# Altium schematic symbol library Connectors.SchLib: 12 symbols
Pins are listed as number, name and electrical type; pins without a type are passive.

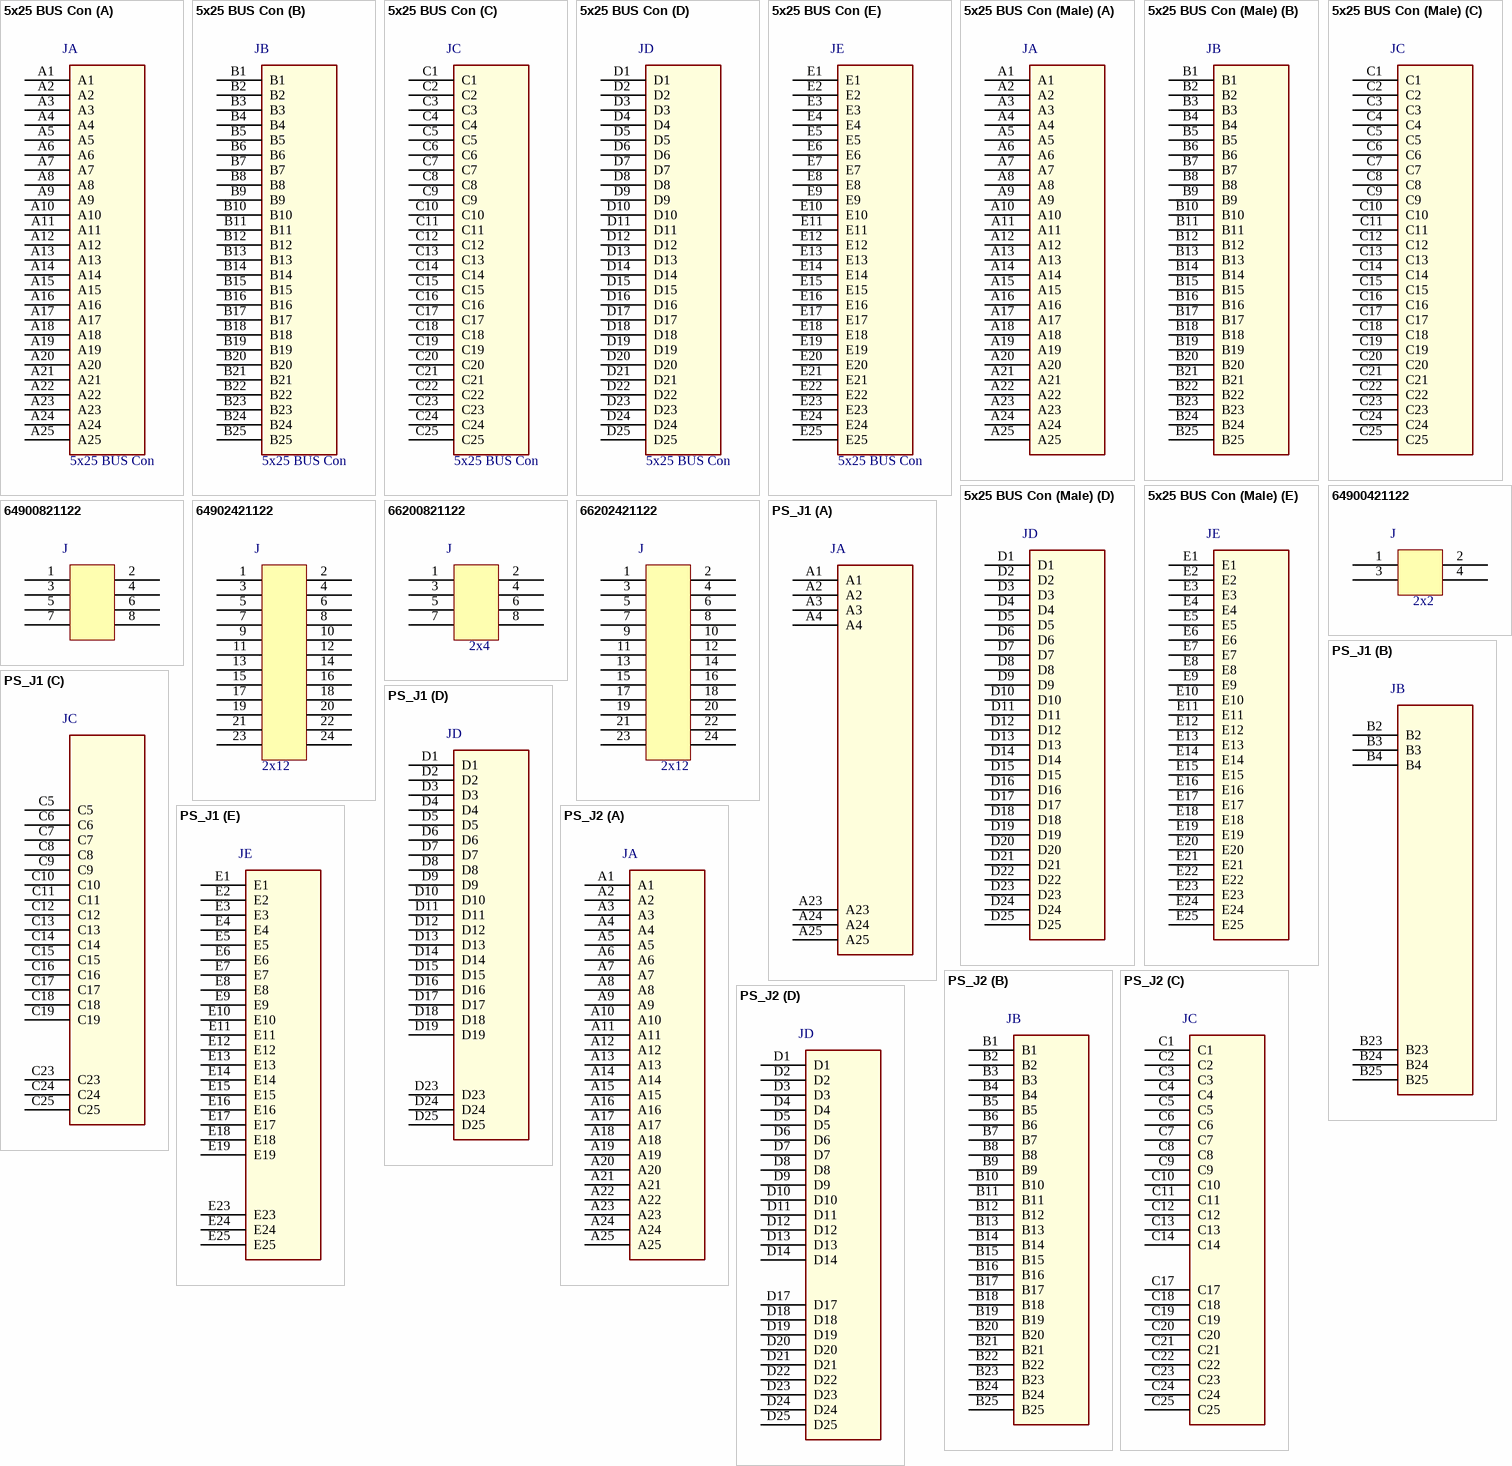
[diagram p0: symbols 5x25 BUS Con to PS_J2]

## 5x25 BUS Con
designator J  value 5x25 BUS Con  (hidden comment: *)
Manufacturer Code: 244-21300-15; Manufacturer: EPT; Farnell Code: 1656299; Unit Price: 3,29 €
footprint B25 (EPT B25 Female Connector 244-21300-15)
part A pins: A1, A2, A3, A4, A5, A6, A7, A8, A9, A10, A11, A12, A13, A14, A15, A16, A17, A18, A19, A20, A21, A22, A23, A24, A25
part B pins: B1, B2, B3, B4, B5, B6, B7, B8, B9, B10, B11, B12, B13, B14, B15, B16, B17, B18, B19, B20, B21, B22, B23, B24, B25
part C pins: C1, C2, C3, C4, C5, C6, C7, C8, C9, C10, C11, C12, C13, C14, C15, C16, C17, C18, C19, C20, C21, C22, C23, C24, C25
part D pins: D1, D2, D3, D4, D5, D6, D7, D8, D9, D10, D11, D12, D13, D14, D15, D16, D17, D18, D19, D20, D21, D22, D23, D24, D25
part E pins: E1, E2, E3, E4, E5, E6, E7, E8, E9, E10, E11, E12, E13, E14, E15, E16, E17, E18, E19, E20, E21, E22, E23, E24, E25

## 5x25 BUS Con (Male)
designator J  (value not drawn)
Manufacturer: EPT; Manufacturer Code: 243-21320-15; Value: 5x25 BUS Con (Male); Farnell Code: 1656246; Unit Price: 1,72 €
footprint B25-Male (Footprint not found)
part A pins: A1, A2, A3, A4, A5, A6, A7, A8, A9, A10, A11, A12, A13, A14, A15, A16, A17, A18, A19, A20, A21, A22, A23, A24, A25
part B pins: B1, B2, B3, B4, B5, B6, B7, B8, B9, B10, B11, B12, B13, B14, B15, B16, B17, B18, B19, B20, B21, B22, B23, B24, B25
part C pins: C1, C2, C3, C4, C5, C6, C7, C8, C9, C10, C11, C12, C13, C14, C15, C16, C17, C18, C19, C20, C21, C22, C23, C24, C25
part D pins: D1, D2, D3, D4, D5, D6, D7, D8, D9, D10, D11, D12, D13, D14, D15, D16, D17, D18, D19, D20, D21, D22, D23, D24, D25
part E pins: E1, E2, E3, E4, E5, E6, E7, E8, E9, E10, E11, E12, E13, E14, E15, E16, E17, E18, E19, E20, E21, E22, E23, E24, E25

## 64900421122
designator J  value 2x2  (hidden comment: *)
Manufacturer Code: 64900421122; Manufacturer: WURTH ELEKTRONIK; Pitch Spacing: 4,2 mm; Unit Price: 0,65 €; Farnell Code: 1641792
footprint 64900421122 (Footprint not found)
pins: 1, 2, 3, 4

## 64900821122
designator J  (value not drawn)
Manufacturer Code: 64900821122; Manufacturer: WURTH ELEKTRONIK; Pitch Spacing: 4,2 mm; Value: 2x8; Farnell Code: 1641794; Unit Price: 0,94 €
footprint 64900821122 (Footprint not found)
pins: 1, 2, 3, 4, 5, 6, 7, 8

## 64902421122
designator J  value 2x12  (hidden comment: *)
Manufacturer: WURTH ELEKTRONIK; Manufacturer Code: 64902421122; Pitch Spacing: 4,2mm; Unit Price: 1,86 €; Farnell Code: 2113337
footprint 64902421122 (Footprint not found)
pins: 1, 2, 3, 4, 5, 6, 7, 8, 9, 10, 11, 12, 13, 14, 15, 16, 17, 18, 19, 20, 21, 22, 23, 24

## 66200821122
designator J  value 2x4  (hidden comment: *)
Manufacturer: WURTH ELEKTRONIK; Manufacturer Code: 66200821122; Pitch Spacing: 3mm; Unit Price: 2,99 €; Farnell Code: 1641813
footprint 66200821122
pins: 1, 2, 3, 4, 5, 6, 7, 8

## 66202421122
designator J  value 2x12  (hidden comment: *)
Manufacturer: WURTH ELEKTRONIK; Manufacturer Code: 66202421122; Pitch Spacing: 3mm; Farnell Code: 2113419; Unit Price: 2,12 €
footprint 66202421122 (Footprint not found)
pins: 1, 2, 3, 4, 5, 6, 7, 8, 9, 10, 11, 12, 13, 14, 15, 16, 17, 18, 19, 20, 21, 22, 23, 24

## PS_J1
designator J  (value not drawn)
footprint PS_J1
part A pins: A1, A2, A3, A4, A23, A24, A25
part B pins: B2, B3, B4, B23, B24, B25
part C pins: C5, C6, C7, C8, C9, C10, C11, C12, C13, C14, C15, C16, C17, C18, C19, C23, C24, C25
part D pins: D1, D2, D3, D4, D5, D6, D7, D8, D9, D10, D11, D12, D13, D14, D15, D16, D17, D18, D19, D23, D24, D25
part E pins: E1, E2, E3, E4, E5, E6, E7, E8, E9, E10, E11, E12, E13, E14, E15, E16, E17, E18, E19, E23, E24, E25

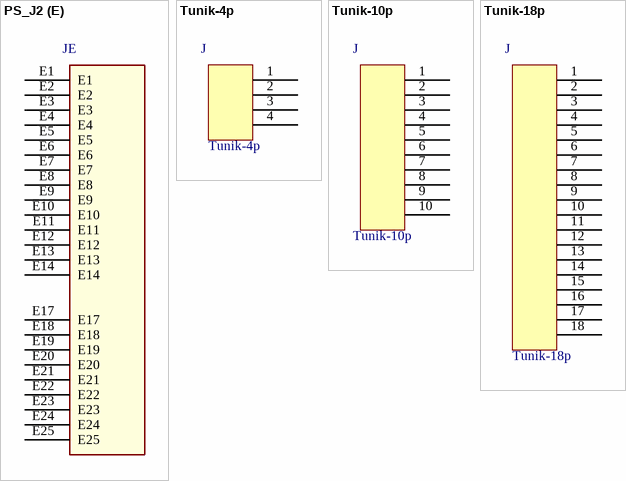
[diagram p1: symbols PS_J2 to Tunik-18p]

## PS_J2
designator J  (value not drawn)
footprint PS_J2 (Footprint not found)
part A pins: A1, A2, A3, A4, A5, A6, A7, A8, A9, A10, A11, A12, A13, A14, A15, A16, A17, A18, A19, A20, A21, A22, A23, A24, A25
part B pins: B1, B2, B3, B4, B5, B6, B7, B8, B9, B10, B11, B12, B13, B14, B15, B16, B17, B18, B19, B20, B21, B22, B23, B24, B25
part C pins: C1, C2, C3, C4, C5, C6, C7, C8, C9, C10, C11, C12, C13, C14, C17, C18, C19, C20, C21, C22, C23, C24, C25
part D pins: D1, D2, D3, D4, D5, D6, D7, D8, D9, D10, D11, D12, D13, D14, D17, D18, D19, D20, D21, D22, D23, D24, D25
part E pins: E1, E2, E3, E4, E5, E6, E7, E8, E9, E10, E11, E12, E13, E14, E17, E18, E19, E20, E21, E22, E23, E24, E25

## Tunik-4p
designator J  value Tunik-4p  (hidden comment: *)
footprint Tunik-4p (90 Deg)
pins: 1, 2, 3, 4

## Tunik-10p
designator J  Tunik-10palue: Tunik-10p  (hidden comment: *)
footprint 1X10 HEADER
pins: 1, 2, 3, 4, 5, 6, 7, 8, 9, 10

## Tunik-18p
designator J  value Tunik-18p  (hidden comment: *)
footprint Tunik-18p (Footprint not found)
pins: 1, 2, 3, 4, 5, 6, 7, 8, 9, 10, 11, 12, 13, 14, 15, 16, 17, 18